# Altium schematic symbol library Power Supply.SchLib: 26 symbols
Pins are listed as number, name and electrical type; pins without a type are passive.

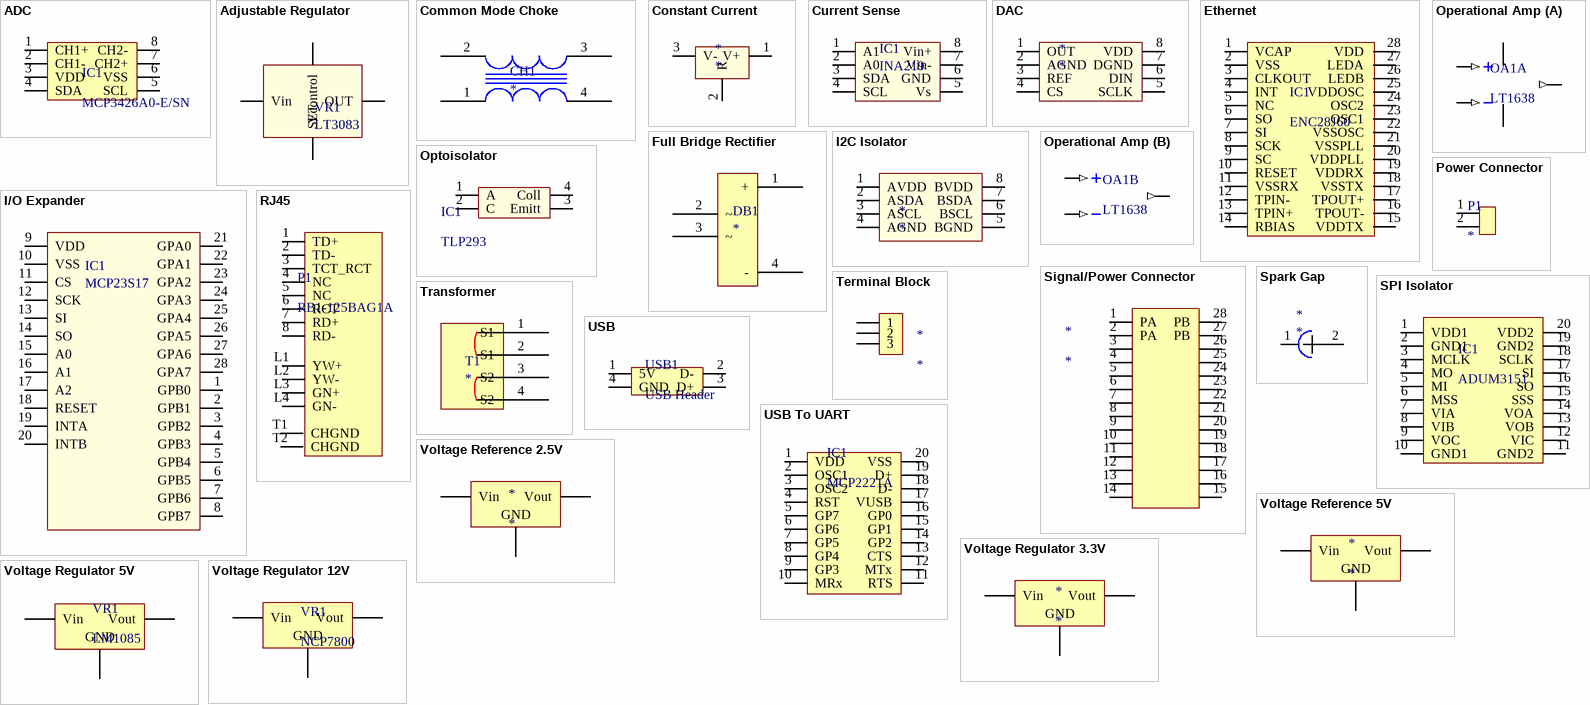
[diagram p0: symbols ADC to Voltage Regulator 12V]

## ADC
designator IC1, comment MCP3426A0-E/SN
footprint 8-SO
pins: 1 CH1+, 2 CH1-, 3 VDD, 4 SDA, 5 SCL, 6 VSS, 7 CH2+, 8 CH2-

## Adjustable Regulator
designator VR1, comment LT3083
footprint LT3083 (Adjustable Voltage Regulator)
pins: 2 SET, 3 OUT, 4 Vcontrol, 5 Vin

## Common Mode Choke
designator CH1
footprint 744825510 (Common Mode Choke)
pins: 1, 2, 3, 4

## Constant Current
designator *
footprint LM134 (Constant Current)
pins: 1 V+, 2 R, 3 V-

## Current Sense
designator IC1, comment INA219
footprint 8-SO
pins: 1 A1, 2 A0, 3 SDA, 4 SCL, 5 Vs, 6 GND, 7 Vin-, 8 Vin+

## DAC
designator *
footprint 8-SO
pins: 1 OUT, 2 AGND, 3 REF, 4 CS, 5 SCLK, 6 DIN, 7 DGND, 8 VDD

## Ethernet
designator IC1, comment ENC28J60
footprint 28P3 (DIP, 28-Leads, Row Spacing 7.62mm, Pitch 2.54mm, Body 34.67x7.3mm)
pins: 1 VCAP, 2 VSS, 3 CLKOUT, 4 INT, 5 NC, 6 SO, 7 SI, 8 SCK, 9 SC, 10 RESET, 11 VSSRX, 12 TPIN-, 13 TPIN+, 14 RBIAS, 15 VDDTX, 16 TPOUT-, 17 TPOUT+, 18 VSSTX, 19 VDDRX, 20 VDDPLL, 21 VSSPLL, 22 VSSOSC, 23 OSC1, 24 OSC2, 25 VDDOSC, 26 LEDB, 27 LEDA, 28 VDD

## Full Bridge Rectifier
designator DB1
footprint GBJ10005 (Full Bridge Rectifier)
pins: 1 +, 2 ~, 3 ~, 4 -

## I2C Isolator
designator *
footprint 8-SO
pins: 1 AVDD, 2 ASDA, 3 ASCL, 4 AGND, 5 BGND, 6 BSCL, 7 BSDA, 8 BVDD

## I/O Expander
designator IC1, comment MCP23S17
footprint DIP28
pins: 1 GPB0, 2 GPB1, 3 GPB2, 4 GPB3, 5 GPB4, 6 GPB5, 7 GPB6, 8 GPB7, 9 VDD, 10 VSS, 11 CS, 12 SCK, 13 SI, 14 SO, 15 A0, 16 A1, 17 A2, 18 RESET, 19 INTA, 20 INTB, 21 GPA0, 22 GPA1, 23 GPA2, 24 GPA3, 25 GPA4, 26 GPA5, 27 GPA6, 28 GPA7

## Operational Amp
designator OA1, comment LT1638
footprint 8-DIP
part A pins: 1 OUTA (out), 2 -INA (in), 3 +INA (in), 4 V-, 8 V+
part B pins: 5 +INB (in), 6 -INB (in), 7 OUTB (out)

## Optoisolator
designator IC1, comment TLP293
footprint 2-SO
pins: 1 A, 2 C, 3 Emitt, 4 Coll

## Power Connector
designator P1
footprint Power Connector
pins: 1, 2

## RJ45
designator P1, comment RB1-125BAG1A
footprint RJ45
pins: 1 TD+, 2 TD-, 3 TCT_RCT, 4 NC, 5 NC, 6 RCT, 7 RD+, 8 RD-, L1 YW+, L2 YW-, L3 GN+, L4 GN-, T1 CHGND, T2 CHGND

## Signal/Power Connector
designator *
footprint Signal/Power Connector
pins: 1 PA, 2 PA, 3, 4, 5, 6, 7, 8, 9, 10, 11, 12, 13, 14, 15, 16, 17, 18, 19, 20, 21, 22, 23, 24, 25, 26, 27 PB, 28 PB

## Spark Gap
designator *
footprint Spark Gap (Stops Over Voltage)
pins: 1, 2

## SPI Isolator
designator IC1, comment ADUM3151
footprint 20-SSOP
pins: 1 VDD1, 2 GND1, 3 MCLK, 4 MO, 5 MI, 6 MSS, 7 VIA, 8 VIB, 9 VOC, 10 GND1, 11 GND2, 12 VIC, 13 VOB, 14 VOA, 15 SSS, 16 SO, 17 SI, 18 SCLK, 19 GND2, 20 VDD2

## Terminal Block
designator *
footprint Terminal Block 3
pins: 1, 2, 3

## Transformer
designator T1
footprint F-215U (Tranformer Secondary Windings)
pins: 1 S1, 2 S1, 3 S2, 4 S2

## USB
designator USB1, comment USB Header
footprint USB
pins: 1 5V, 2 D-, 3 D+, 4 GND

## USB To UART
designator IC1, comment MCP2221A
footprint 20-SO
pins: 1 VDD, 2 OSC1, 3 OSC2, 4 RST, 5 GP7, 6 GP6, 7 GP5, 8 GP4, 9 GP3, 10 MRx, 11 RTS, 12 MTx, 13 CTS, 14 GP2, 15 GP1, 16 GP0, 17 VUSB, 18 D-, 19 D+, 20 VSS

## Voltage Reference 2.5V
designator *
footprint 8-DIP
pins: 2 Vin, 4 GND, 6 Vout

## Voltage Reference 5V
designator *
footprint 8-DIP
pins: 2 Vin, 4 GND, 6 Vout

## Voltage Regulator 3.3V
designator *
footprint TO220
pins: 1 GND, 2 Vout, 3 Vin

## Voltage Regulator 5V
designator VR1, comment LM1085
footprint TO220
pins: 1 Vin, 2 GND, 3 Vout

## Voltage Regulator 12V
designator VR1, comment NCP7800
footprint TO220
pins: 1 Vin, 2 GND, 3 Vout